# EAGLE library part MAX4948ETG (library maxim)
Hex SPDT Data Switch Source: http://datasheets.maxim-ic.com/en/ds/MAX4947-MAX4948.pdf
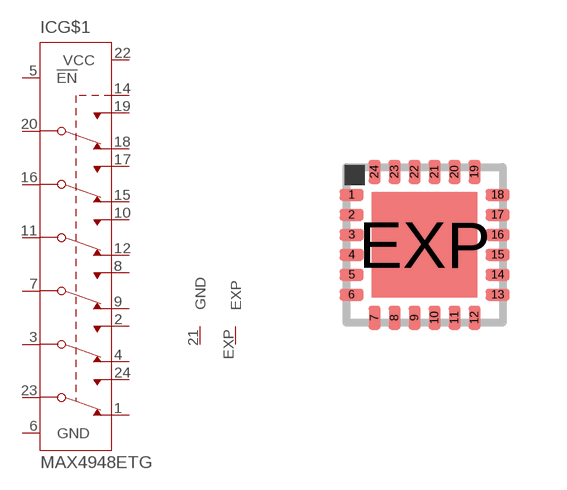
[diagram p134: symbol with the pads of TQFN24-EP; footprint TQFN24-EP]

Designator prefix IC; gates G$1=MAX4948 P1=GND EP=EXPOSED

## MAX4948ETG (MPN: MAX4948ETG+; OC_FARNELL: unknown; OC_NEWARK: 42M5624)  [TQFN24-EP]
1  G$1:NC6
2  G$1:NO5
3  G$1:COM5
4  G$1:NC5
5  G$1:!EN  in
6  G$1:GND  pwr
7  G$1:COM4
8  G$1:NO4
9  G$1:NC4
10  G$1:NO3
11  G$1:COM3
12  G$1:NC3
14  G$1:CB  in
15  G$1:NC2
16  G$1:COM2
17  G$1:NO2
18  G$1:NC1
19  G$1:NO1
20  G$1:COM1
21  P1:GND  pwr
22  G$1:VCC  pwr
23  G$1:COM6
24  G$1:NO6
EXP  EP:EXP  pas

## Footprint TQFN24-EP (pad centres in mm)
24 TQFN-EP 24 T2444-4 Source: http://datasheets.maxim-ic.com/en/ds/MAX4947-MAX4948.pdf
smd 0.6 x 0.3: 1 -1.825,1.25; 2 -1.825,0.75; 3 -1.825,0.25; 4 -1.825,-0.25; 5 -1.825,-0.75; 6 -1.825,-1.25; 13 1.825,-1.25; 14 1.825,-0.75; 15 1.825,-0.25; 16 1.825,0.25; 17 1.825,0.75; 18 1.825,1.25
smd 0.3 x 0.6: 7 -1.25,-1.825; 8 -0.75,-1.825; 9 -0.25,-1.825; 10 0.25,-1.825; 11 0.75,-1.825; 12 1.25,-1.825; 19 1.25,1.825; 20 0.75,1.825; 21 0.25,1.825; 22 -0.25,1.825; 23 -0.75,1.825; 24 -1.25,1.825
smd 2.63 x 2.63: EXP 0,0